# Altium schematic symbol library CAR1.SchLib: 13 symbols
Pins are listed as number, name and electrical type; pins without a type are passive.

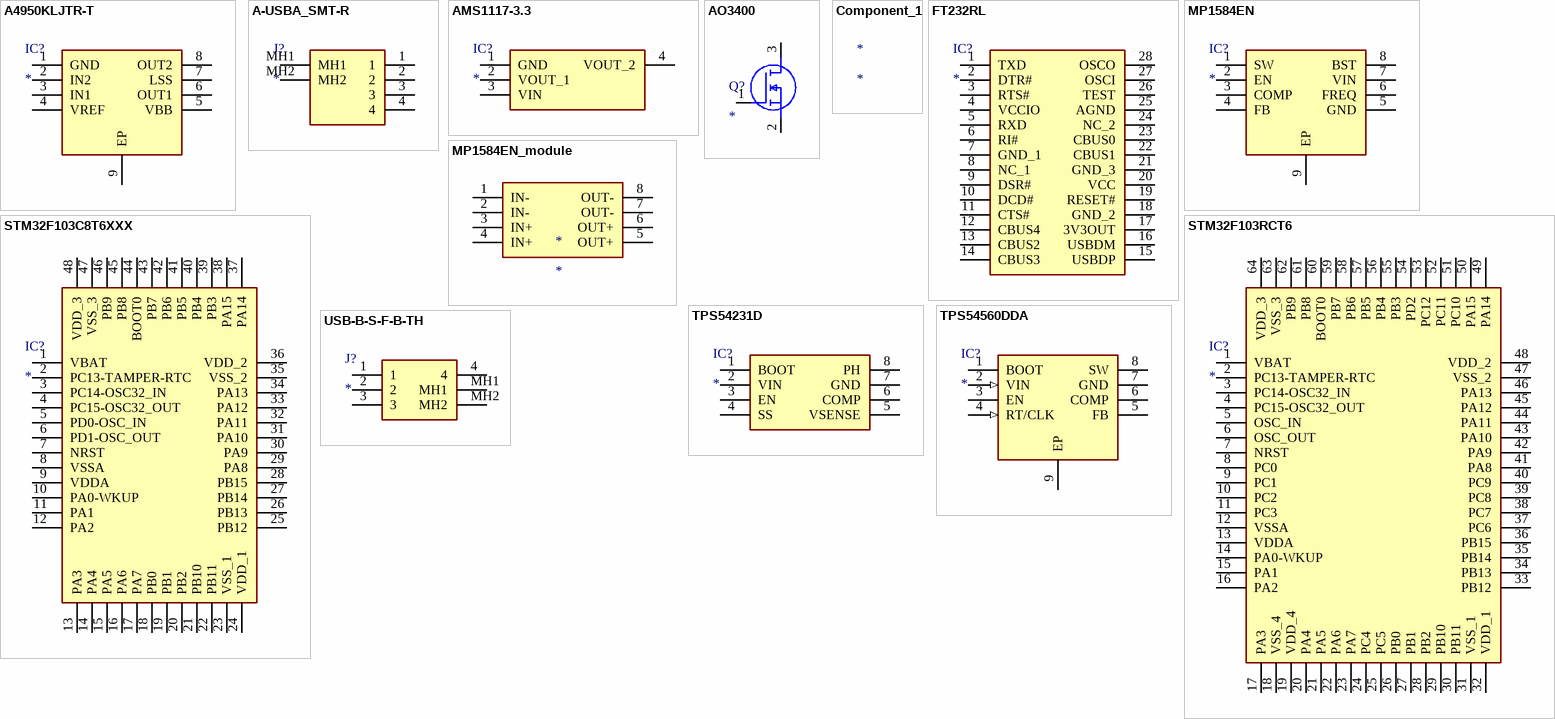
[diagram p0: symbols A4950KLJTR-T to USB-B-S-F-B-TH]

## A4950KLJTR-T
designator IC?
Integrated Circuit; Manufacturer_Name: Allegro Microsystems; Manufacturer_Part_Number: A4950KLJTR-T; Datasheet Link: https://www.allegromicro.com/~/media/Files/Datasheets/A4950-Datasheet.ashx; Height: 1.7mm; Arrow Part Number: A4950KLJTR-T; Arrow Price/Stock: https://www.arrow.com/en/products/a4950kljtr-t/allegro-microsystems?region=nac
footprint SOIC127P600X170-9N
pins: 1 GND, 2 IN2, 3 IN1, 4 VREF, 5 VBB, 6 OUT1, 7 LSS, 8 OUT2, 9 EP

## A-USBA_SMT-R
designator J?
Connector; Manufacturer_Name: ASSMANN WSW components GmbH; Manufacturer_Part_Number: A-USBA/SMT-R; Datasheet Link: https://4donline.ihs.com/images/VipMasterIC/IC/ASMN/ASMN-S-A0006023560/ASMN-S-A0006023560-1.pdf?hkey=EF798316E3902B6ED9A73243A3159BB0; Height: 7.12mm
footprint AUSBASMTR
pins: 1, 2, 3, 4, MH1, MH2

## AMS1117-3.3
designator IC?
Integrated Circuit; Manufacturer_Name: Advanced Monolithic Systems; Manufacturer_Part_Number: AMS1117-3.3; Datasheet Link: http://www.advanced-monolithic.com/pdf/ds1117.pdf; Height: 1.8mm
footprint SOT229P700X180-4N
pins: 1 GND, 2 VOUT_1, 3 VIN, 4 VOUT_2

## AO3400
designator Q?
MOSFET (N-Channel); Manufacturer_Name: Alpha & Omega Semiconductors; Manufacturer_Part_Number: AO3400; Description: 30V N-Channel MOSFET; Datasheet Link: http://aosmd.com/res/data_sheets/AO3400.pdf; Height: 1.25mm; Arrow Part Number: AO3400; Arrow Price/Stock: https://www.arrow.com/en/products/ao3400/alpha-and-omega-semiconductor
footprint SOT95P280X125-3N
pins: 1 G, 2 S, 3 D

## Component_1
designator *

## FT232RL
designator IC?
Integrated Circuit; Manufacturer_Name: FTDI Chip; Manufacturer_Part_Number: FT232RL; Datasheet Link: http://www.ftdichip.com/Support/Documents/DataSheets/ICs/DS_FT232R.pdf; Height: 2mm; Arrow Part Number: FT232RL; Arrow Price/Stock: https://www.arrow.com/en/products/ft232rl/ftdi-chip
footprint SOP65P778X200-28N
pins: 1 TXD, 2 DTR#, 3 RTS#, 4 VCCIO, 5 RXD, 6 RI#, 7 GND_1, 8 NC_1, 9 DSR#, 10 DCD#, 11 CTS#, 12 CBUS4, 13 CBUS2, 14 CBUS3, 15 USBDP, 16 USBDM, 17 3V3OUT, 18 GND_2, 19 RESET#, 20 VCC, 21 GND_3, 22 CBUS1, 23 CBUS0, 24 NC_2, 25 AGND, 26 TEST, 27 OSCI, 28 OSCO

## MP1584EN
designator IC?
Integrated Circuit; Manufacturer_Name: Monolithic Power Systems (MPS); Manufacturer_Part_Number: MP1584EN; Height: 1.7mm
footprint SOIC127P600X170-9N
pins: 1 SW, 2 EN, 3 COMP, 4 FB, 5 GND, 6 FREQ, 7 VIN, 8 BST, 9 EP

## MP1584EN_module
designator *
footprint MP1584EN_module
pins: 1 IN-, 2 IN-, 3 IN+, 4 IN+, 5 OUT+, 6 OUT+, 7 OUT-, 8 OUT-

## STM32F103C8T6XXX
designator IC?
Integrated Circuit; Manufacturer_Name: ST; Manufacturer_Part_Number: STM32F103C8T6XXX; Datasheet Link: https://4donline.ihs.com/images/VipMasterIC/IC/SGST/SGSTS49413/SGSTS49413-1.pdf?hkey=EF798316E3902B6ED9A73243A3159BB0; Height: 1.6mm
footprint QFP50P900X900X160-48N
pins: 1 VBAT, 2 PC13-TAMPER-RTC, 3 PC14-OSC32_IN, 4 PC15-OSC32_OUT, 5 PD0-OSC_IN, 6 PD1-OSC_OUT, 7 NRST, 8 VSSA, 9 VDDA, 10 PA0-WKUP, 11 PA1, 12 PA2, 13 PA3, 14 PA4, 15 PA5, 16 PA6, 17 PA7, 18 PB0, 19 PB1, 20 PB2, 21 PB10, 22 PB11, 23 VSS_1, 24 VDD_1, 25 PB12, 26 PB13, 27 PB14, 28 PB15, 29 PA8, 30 PA9, 31 PA10, 32 PA11, 33 PA12, 34 PA13, 35 VSS_2, 36 VDD_2, 37 PA14, 38 PA15, 39 PB3, 40 PB4, 41 PB5, 42 PB6, 43 PB7, 44 BOOT0, 45 PB8, 46 PB9, 47 VSS_3, 48 VDD_3

## STM32F103RCT6
designator IC?
Integrated Circuit; Manufacturer_Name: STMicroelectronics; Manufacturer_Part_Number: STM32F103RCT6; Datasheet Link: http://www.st.com/st-web-ui/static/active/en/resource/technical/document/datasheet/CD00191185.pdf; Height: 1.6mm; Mouser Part Number: 511-STM32F103RCT6; Mouser Price/Stock: https://www.mouser.co.uk/ProductDetail/STMicroelectronics/STM32F103RCT6?qs=%252BB84zevwoRA6TYzZIgOIoA%3D%3D; Arrow Part Number: STM32F103RCT6; Arrow Price/Stock: https://www.arrow.com/en/products/stm32f103rct6/stmicroelectronics
footprint QFP50P1200X1200X160-64N
pins: 1 VBAT, 2 PC13-TAMPER-RTC, 3 PC14-OSC32_IN, 4 PC15-OSC32_OUT, 5 OSC_IN, 6 OSC_OUT, 7 NRST, 8 PC0, 9 PC1, 10 PC2, 11 PC3, 12 VSSA, 13 VDDA, 14 PA0-WKUP, 15 PA1, 16 PA2, 17 PA3, 18 VSS_4, 19 VDD_4, 20 PA4, 21 PA5, 22 PA6, 23 PA7, 24 PC4, 25 PC5, 26 PB0, 27 PB1, 28 PB2, 29 PB10, 30 PB11, 31 VSS_1, 32 VDD_1, 33 PB12, 34 PB13, 35 PB14, 36 PB15, 37 PC6, 38 PC7, 39 PC8, 40 PC9, 41 PA8, 42 PA9, 43 PA10, 44 PA11, 45 PA12, 46 PA13, 47 VSS_2, 48 VDD_2, 49 PA14, 50 PA15, 51 PC10, 52 PC11, 53 PC12, 54 PD2, 55 PB3, 56 PB4, 57 PB5, 58 PB6, 59 PB7, 60 BOOT0, 61 PB8, 62 PB9, 63 VSS_3, 64 VDD_3

## TPS54231D
designator IC?
Integrated Circuit; Manufacturer_Name: Texas Instruments; Manufacturer_Part_Number: TPS54231D; Datasheet Link: http://www.ti.com/lit/ds/symlink/tps54231.pdf; Height: 1.75mm; Mouser Part Number: 595-TPS54231D; Mouser Price/Stock: https://www.mouser.co.uk/ProductDetail/Texas-Instruments/TPS54231D?qs=XGzIaZb%2FFYKgSi6ISxIl1g%3D%3D; Arrow Part Number: TPS54231D; Arrow Price/Stock: https://www.arrow.com/en/products/tps54231d/texas-instruments?region=nac
footprint SOIC127P600X175-8N
pins: 1 BOOT, 2 VIN, 3 EN, 4 SS, 5 VSENSE, 6 COMP, 7 GND, 8 PH

## TPS54560DDA
designator IC?
Integrated Circuit; Manufacturer_Name: Texas Instruments; Manufacturer_Part_Number: TPS54560DDA; Datasheet Link: http://www.ti.com/lit/ds/symlink/tps54560.pdf; Height: 1.7mm; Mouser Part Number: 595-TPS54560DDA; Mouser Price/Stock: https://www.mouser.co.uk/ProductDetail/Texas-Instruments/TPS54560DDA?qs=%2FA2SZCkL4TkCDiLMkQe1zw%3D%3D; Arrow Part Number: TPS54560DDA; Arrow Price/Stock: https://www.arrow.com/en/products/tps54560dda/texas-instruments
footprint SOIC127P600X170-9N
pins: 1 BOOT, 2 VIN (in), 3 EN, 4 RT/CLK (in), 5 FB, 6 COMP, 7 GND (power), 8 SW, 9 EP (power)

## USB-B-S-F-B-TH
designator J?
Connector; Manufacturer_Name: SAMTEC; Manufacturer_Part_Number: USB-B-S-F-B-TH; Datasheet Link: http://suddendocs.samtec.com/prints/usb-b-s-x-x-th-x-xx-mkt.pdf; Height: 10.95mm; Mouser Part Number: 200-USBBSFBTH; Mouser Price/Stock: https://www.mouser.co.uk/ProductDetail/Samtec/USB-B-S-F-B-TH?qs=sVTw84TxZehrVm561Fh59Q%3D%3D; Arrow Part Number: USB-B-S-F-B-TH; Arrow Price/Stock: https://www.arrow.com/en/products/usb-b-s-f-b-th/samtec
footprint USBBSFBTH
pins: 1, 2, 3, 4, MH1, MH2